# EAGLE library part MCP23008 (library Microchip)
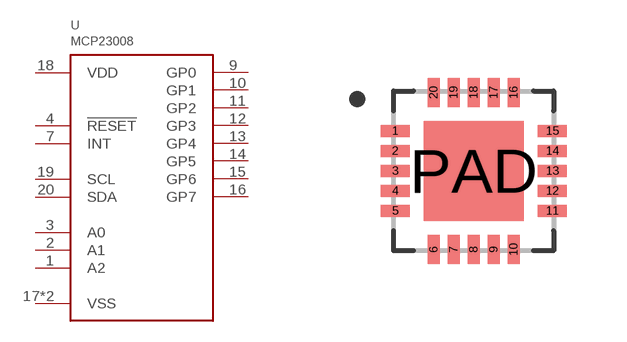
[diagram p46: symbol with the pads of QFN20; footprint QFN20]

Designator prefix U

## MCP23008  [QFN20]
1  A2
2  A1
3  A0
4  !RESET
7  INT
9  GP0
10  GP1
11  GP2
12  GP3
13  GP4
14  GP5
15  GP6
16  GP7
17  VSS
18  VDD
19  SCL
20  SDA
PAD  VSS

## Footprint QFN20 (pad centres in mm)
smd 0.73 x 0.3: 1 -1.965,1; 2 -1.965,0.5; 3 -1.965,0; 4 -1.965,-0.5; 5 -1.965,-1; 11 1.965,-1; 12 1.965,-0.5; 13 1.965,0; 14 1.965,0.5; 15 1.965,1
smd 0.3 x 0.73: 6 -1,-1.965; 7 -0.5,-1.965; 8 0,-1.965; 9 0.5,-1.965; 10 1,-1.965; 16 1,1.965; 17 0.5,1.965; 18 0,1.965; 19 -0.5,1.965; 20 -1,1.965
smd 2.5 x 2.5: PAD 0,0